# EAGLE library part MOTOR_DIRECCION (library ecar)
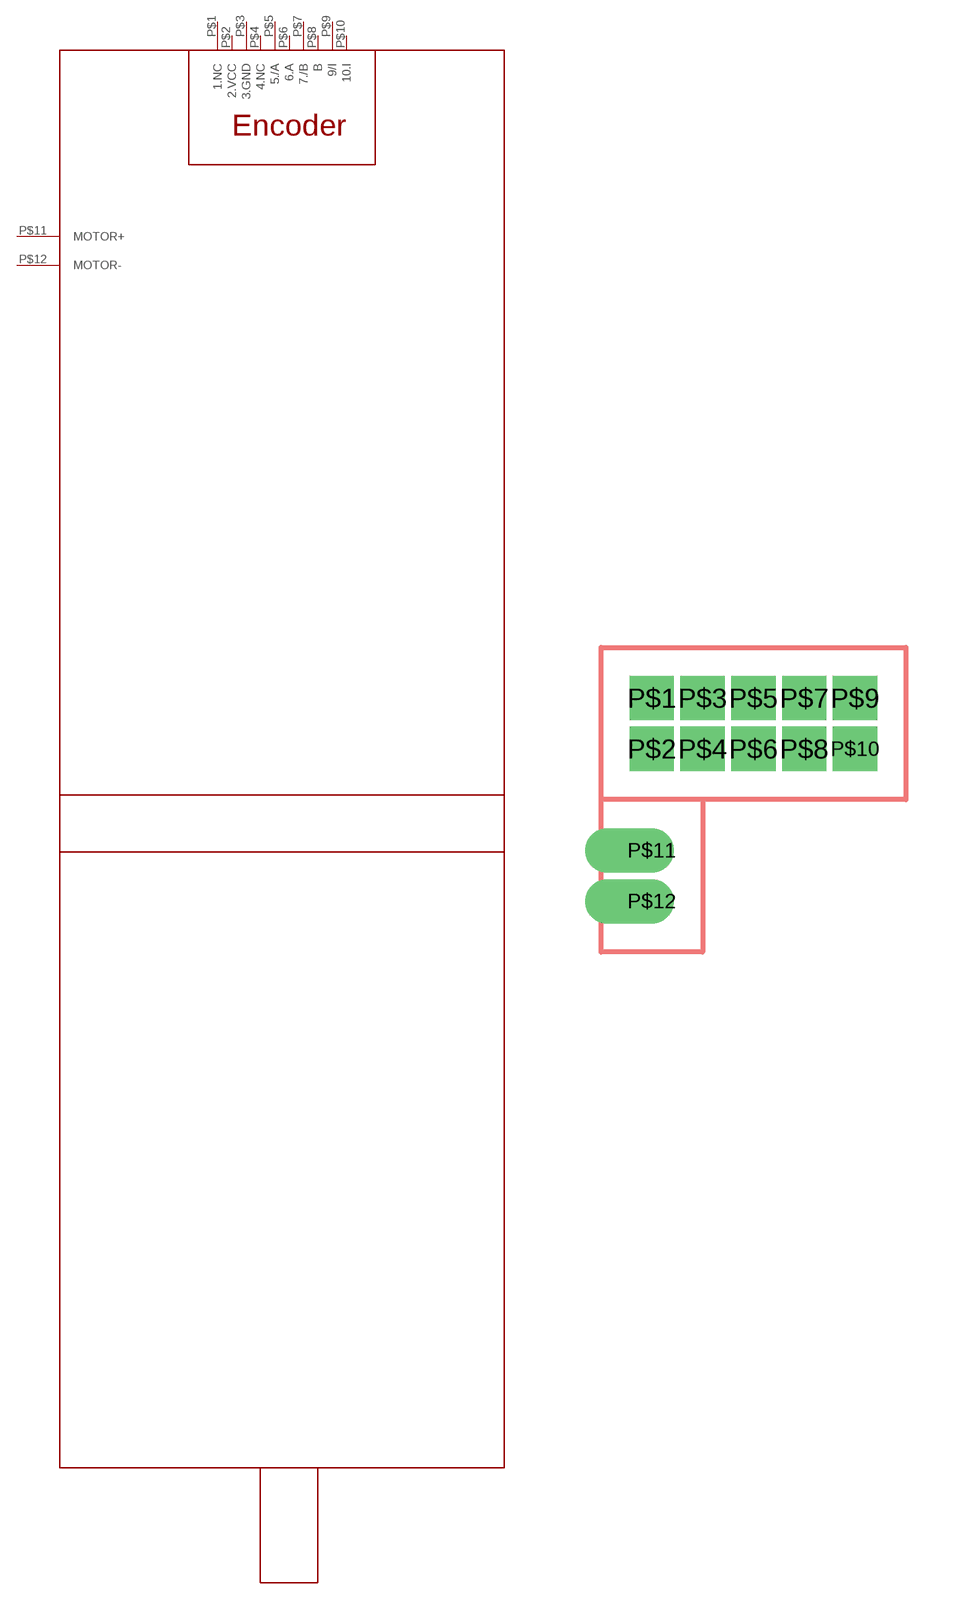
[diagram p4: symbol with the pads of MOTOR_DIRECCION; footprint MOTOR_DIRECCION]

Designator prefix -

## MOTOR_DIRECCION  [MOTOR_DIRECCION]
P$1  1.NC
P$2  2.VCC
P$3  3.GND
P$4  4.NC
P$5  5./A
P$6  6.A
P$7  7./B
P$8  B
P$9  9/I
P$10  10.I
P$11  MOTOR+
P$12  MOTOR-

## Footprint MOTOR_DIRECCION (pad centres in mm)
drill 0.6 square: P$1 0,8.89; P$2 0,7.62; P$3 1.27,8.89; P$4 1.27,7.62; P$5 2.54,8.89; P$6 2.54,7.62; P$7 3.81,8.89; P$8 3.81,7.62; P$9 5.08,8.89; P$10 5.08,7.62
drill 0.6 offset: P$11 0,5.08; P$12 0,3.81